# EAGLE library part MAX5715 (library borkedlabs-dataconversion)
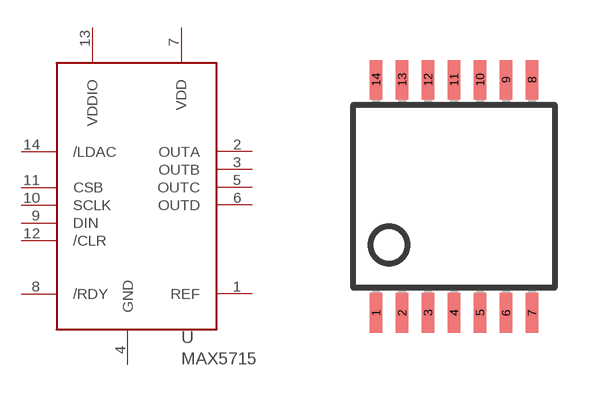
[diagram p3: symbol with the pads of TSSOP14; footprint TSSOP14]

Designator prefix U

## MAX5715AAUD  [TSSOP14]
1  REF
2  OUTA
3  OUTB
4  GND
5  OUTC
6  OUTD
7  VDD
8  /RDY
9  DIN
10  SCLK
11  CSB
12  /CLR
13  VDDIO
14  /LDAC

## Footprint TSSOP14 (pad centres in mm)
Thin Shrink Small Outline Plastic 14 MAX3223-MAX3243.pdf
smd 0.305 x 0.991: 1 -1.95,-2.918; 2 -1.3,-2.918; 3 -0.65,-2.918; 4 0,-2.918; 5 0.65,-2.918; 6 1.3,-2.918; 7 1.95,-2.918; 8 1.95,2.918; 9 1.3,2.918; 10 0.65,2.918; 11 0,2.918; 12 -0.65,2.918; 13 -1.3,2.918; 14 -1.95,2.918